# Altium integrated library BQ51013BRHLT.IntLib: 1 symbol
Pins are listed as number, name and electrical type; pins without a type are passive.

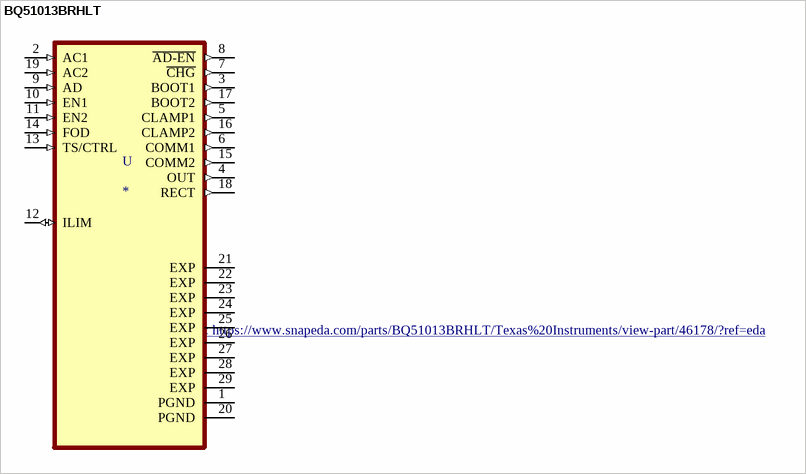
[diagram p0: symbol BQ51013BRHLT]

## BQ51013BRHLT
designator U
WPC 1.1 Compatible Fully integrated Wireless power Receiver IC 20-VQFN 0 to 125; MP: BQ51013BRHLT; MF: Texas Instruments; Texas_Instruments-Purchase-URL: https://snapeda.com/shop?store=Texas+Instruments&id=46178; DigiKey-Purchase-URL: https://snapeda.com/shop?store=DigiKey&id=46178; SnapEDA_Link: https://www.snapeda.com/parts/BQ51013BRHLT/Texas%20Instruments/view-part/46178/?ref=snap; Mouser-Purchase-URL: https://snapeda.com/shop?store=Mouser&id=46178; Value: *; Digi-Key_Part_Number: 296-35638-1-ND; Package: VQFN-20 Texas Instruments; Check_prices: https://www.snapeda.com/parts/BQ51013BRHLT/Texas%20Instruments/view-part/46178/?ref=eda
footprint IC_MSP430FR2522IRHLR
pins: 1 PGND (power), 2 AC1 (in), 3 BOOT1 (out), 4 OUT (out), 5 CLAMP1 (out), 6 COMM1 (out), 7 ~{CHG} (out), 8 ~{AD-EN} (out), 9 AD (in), 10 EN1 (in), 11 EN2 (in), 12 ILIM (io), 13 TS/CTRL (in), 14 FOD (in), 15 COMM2 (out), 16 CLAMP2 (out), 17 BOOT2 (out), 18 RECT (out), 19 AC2 (in), 20 PGND (power), 21 EXP (power), 22 EXP (power), 23 EXP (power), 24 EXP (power), 25 EXP (power), 26 EXP (power), 27 EXP (power), 28 EXP (power), 29 EXP (power)